# Altium schematic symbol library CR0805-FX-3301GLF.SchLib: 1 symbol
Pins are listed as number, name and electrical type; pins without a type are passive.

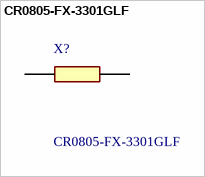
[diagram p0: symbol CR0805-FX-3301GLF]

## CR0805-FX-3301GLF
designator X?
SMD 0805 thick film resistor 3K3 1% Bourns CR0805-FX Series Thick Film Surface Mount Fixed Resistor 0805 Case 3.3k +/-1% 0.125W +/-100ppm/C; Geometry.Height: 0.6mm; Mouser Part Number: 652-CR0805-FX3301GLF; Mouser Price/Stock: https://www.mouser.co.uk/ProductDetail/Bourns/CR0805-FX-3301GLF?qs=4vGXhLEMbUzLZ0nTZ9yabA%3D%3D; Manufacturer_Name: Bourns; Manufacturer_Part_Number: CR0805-FX-3301GLF; Datasheet Link: https://www.bourns.com/pdfs/chpreztr.pdf
footprint RESC2012X60N
pins: 1, 2